# Altium schematic symbol library Schlib1.SchLib: 1 symbol
Pins are listed as number, name and electrical type; pins without a type are passive.

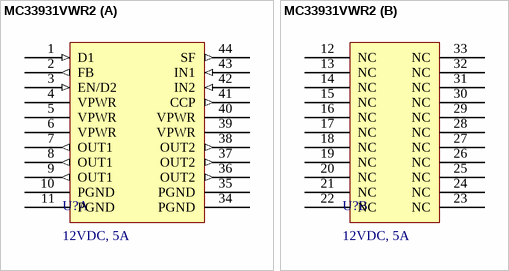
[diagram p0: symbol MC33931VWR2]

## MC33931VWR2
designator U?, comment 12VDC, 5A
- Motor Driver CMOS Parallel 44-HSOP
footprint SOP65P1420X340_HS-45N (SOP, 44-Leads, Body 15.90x11.00mm, Pitch 0.65mm, Thermal Pad 12.60x7.30mm, IPC Medium Density)
footprint SOP65P1420X340_HS-45N (SOP, 44-Leads, Body 15.90x11.00mm, Pitch 0.65mm, Thermal Pad 12.60x7.30mm, IPC Medium Density)
part A pins: 1 D1 (in), 2 FB (out), 3 EN/D2 (in), 4 VPWR (power), 5 VPWR (power), 6 VPWR (power), 7 OUT1 (out), 8 OUT1 (out), 9 OUT1 (out), 10 PGND (power), 11 PGND (power), 34 PGND (power), 35 PGND (power), 36 OUT2 (out), 37 OUT2 (out), 38 OUT2 (out), 39 VPWR (power), 40 VPWR (power), 41 CCP (out), 42 IN2 (in), 43 IN1 (in), 44 SF (out)
part B pins: 12 NC, 13 NC, 14 NC, 15 NC, 16 NC, 17 NC, 18 NC, 19 NC, 20 NC, 21 NC, 22 NC, 23 NC, 24 NC, 25 NC, 26 NC, 27 NC, 28 NC, 29 NC, 30 NC, 31 NC, 32 NC, 33 NC